# Altium footprint library Thermocouple Connector PCB Lib.PcbLib: 1 footprints
Each footprint in its own frame and in the unit in brackets; x right, y up, seen from the top. Pads: shape width x height; smd on the part's side, far side on the other; paste and mask are expansions set on the pad; w line width, h text height; cw(c..) or ccw(c..) is an arc to the next point about the centre after c.
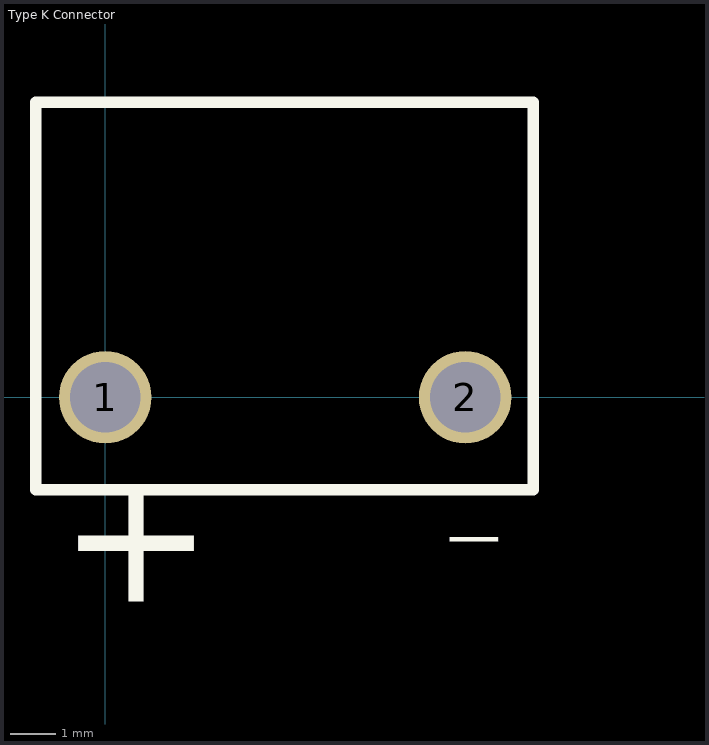
[diagram p0: the footprint, top view; thin cyan lines are the x and y axes]

## Type K Connector [mil]
pads (2):
  round 80 hole 61.02: 1(0,0) 2(311.02,0)
Top Overlay:
  lines w10: -60,-80 370,-80 370,255 -60,255 -60,-80
  text "+" at -40,-215 h200
  text "-" at 290,-200 h200